# Altium schematic symbol library SM4007PL.SchLib: 1 symbol
Pins are listed as number, name and electrical type; pins without a type are passive.

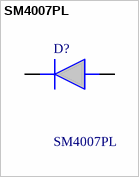
[diagram p0: symbol SM4007PL]

## SM4007PL
designator D?
1kV 1A 1.1V @ 1A SOD-123FL Diodes - General Purpose RoHS; Manufacturer_Name: MDD; Geometry.Height: 1.25mm; Manufacturer_Part_Number: SM4007PL; Mouser Part Number: *; Mouser Price/Stock: *; Arrow Part Number: *; Arrow Price/Stock: *; Datasheet Link: https://datasheet.lcsc.com/szlcsc/1903051030_MDD-Jiangsu-Yutai-Elec-SM4007PL_C64898.pdf
footprint SODFL3718X125N
pins: 1 K, 2 A